# EAGLE library part USB (library 3DRobotics_Master_Library)
USB Connectors
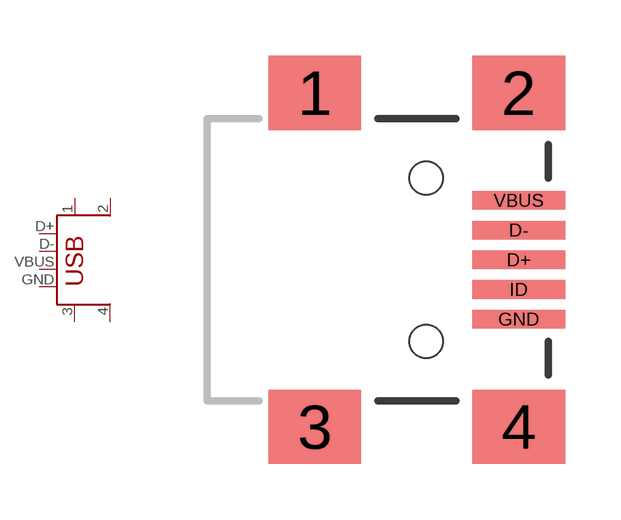
[diagram p14: symbol with the pads of USB-MINIB; footprint USB-MINIB]

Designator prefix X

## USBSMD  [USB-MINIB]
1  SHIELD1
2  SHIELD2
3  SHIELD3
4  SHIELD4
D+  D+
D-  D-
GND  GND
VBUS  VBUS

## Footprint USB-MINIB (pad centres in mm)
USB Series Mini-B Surface Mounted
smd 2.5 x 2: 1 -3,4.5; 2 2.5,4.5; 3 -3,-4.5; 4 2.5,-4.5
smd 2.5 x 0.5: D+ 2.5,0; D- 2.5,0.8; GND 2.5,-1.6; ID 2.5,-0.8; VBUS 2.5,1.6
hole 0.9 at 0,2.2
hole 0.9 at 0,-2.2